# Altium footprint library DC_DC.PcbLib: 1 footprints
Each footprint in its own frame and in the unit in brackets; x right, y up, seen from the top. Pads: shape width x height; smd on the part's side, far side on the other; paste and mask are expansions set on the pad; w line width, h text height; cw(c..) or ccw(c..) is an arc to the next point about the centre after c.
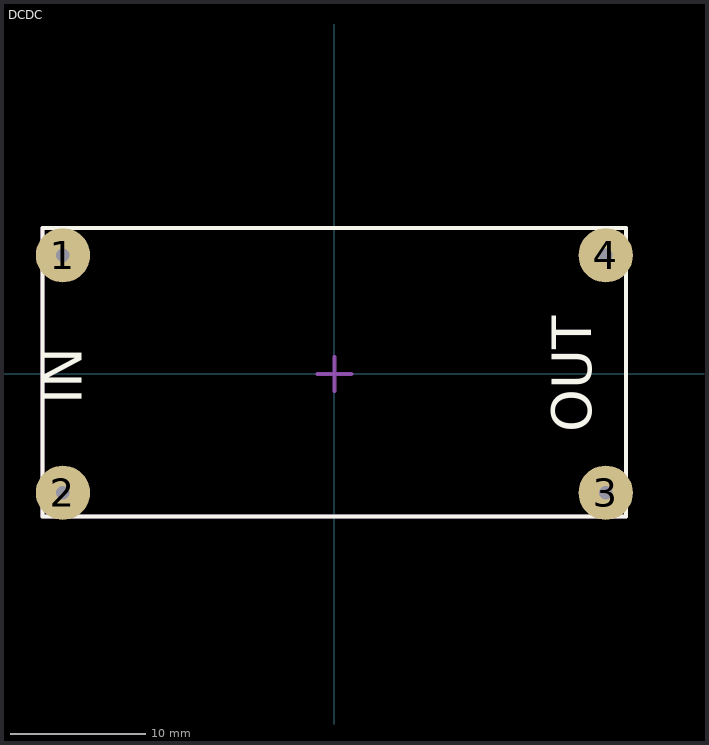
[diagram p0: the footprint, top view; thin cyan lines are the x and y axes]

## DCDC [mm]
pads (4):
  round 4 hole 1: 1(-20,8.75) 2(-20,-8.75) 3(20,-8.75) 4(20,8.75)
Top Overlay:
  lines w0.3: -21.5,-10.5 -21.5,10.75 21.5,10.75 21.5,-10.5 -21.5,-10.5
  text "OUT" at 19.903,-4.297 h5
  text "IN" at -17.642,-2.247 h5
Mechanical 15:
  lines w0.3: -1.25,0 1.25,0 ; 0,-1.25 0,1.25 ; -21.5,-10.5 21.5,-10.5 21.5,10.75 -21.5,10.75 -21.5,-10.5
3D body "LM2596_Buck_Converter.stp": height 13, standoff -1, extent -21.5,-10.5 21.5,10.65